# EAGLE library part WE-RJ45_HPLE_1000_BASET_POE (library Wuerth_Elektronik_eiSos_Version_6-12)
WE-RJ45 HPLE Transformer 1000 BaseT, PoE - RJ45 connector with integrated transformer common mode choke - 350 µH min.OCL with 350 mA bias - Complies with IEEE 802.3 - Extended temperature range from 0°C to +70°C available -- ADSL Modem -- Embedded PC -- LAN network applications -- Hub, Router, Switches
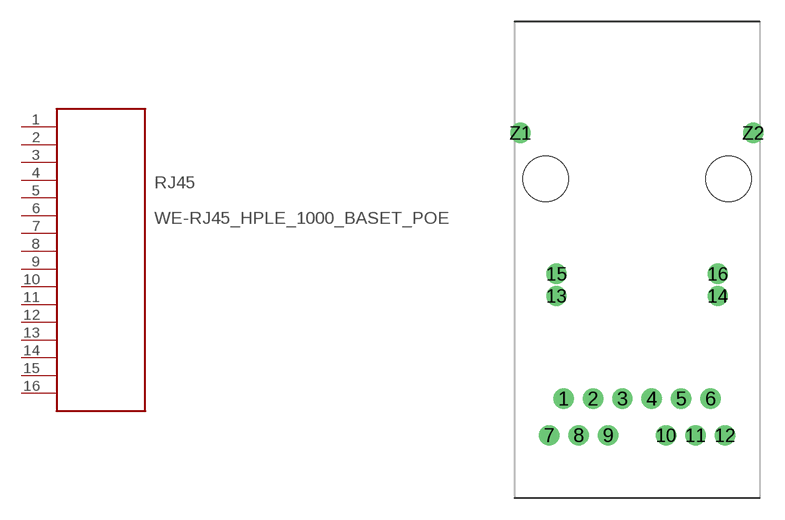
[diagram p112: symbol with the pads of WE-RJ45_HPLE_1000_BASET_7499311001; footprint WE-RJ45_HPLE_1000_BASET_7499311001]

Designator prefix RJ45

## WE-RJ45_HPLE_1000_BASET_POE_7499311001  [WE-RJ45_HPLE_1000_BASET_7499311001]
1  1  pas
2  2  pas
3  3  pas
4  4  pas
5  5  pas
6  6  pas
7  7  pas
8  8  pas
9  9  pas
10  10  pas
11  11  pas
12  12  pas
13  13  pas
14  14  pas
15  15  pas
16  16  pas

## Footprint WE-RJ45_HPLE_1000_BASET_7499311001 (pad centres in mm)
WE-RJ45 HPLE Transformer 1000 BaseT, PoE
drill 0.9 round: 1 -5.095,-15.24; 2 -3.055,-15.24; 3 -1.015,-15.24; 4 1.015,-15.24; 5 3.055,-15.24; 6 5.095,-15.24; 7 -6.09,-17.78; 8 -4.05,-17.78; 9 -2.01,-17.78; 10 2.01,-17.78; 11 4.05,-17.78; 12 6.09,-17.78; 13 -5.59,-8.12; 14 5.59,-8.12; 15 -5.59,-6.59; 16 5.59,-6.59; Z1 -8.08,3.18; Z2 8.05,3.18
hole 3.15 at -6.35,0
hole 3.15 at 6.35,0